# EAGLE library part Z80PIO (library zilog)
Z80 FAMILY DEVICE
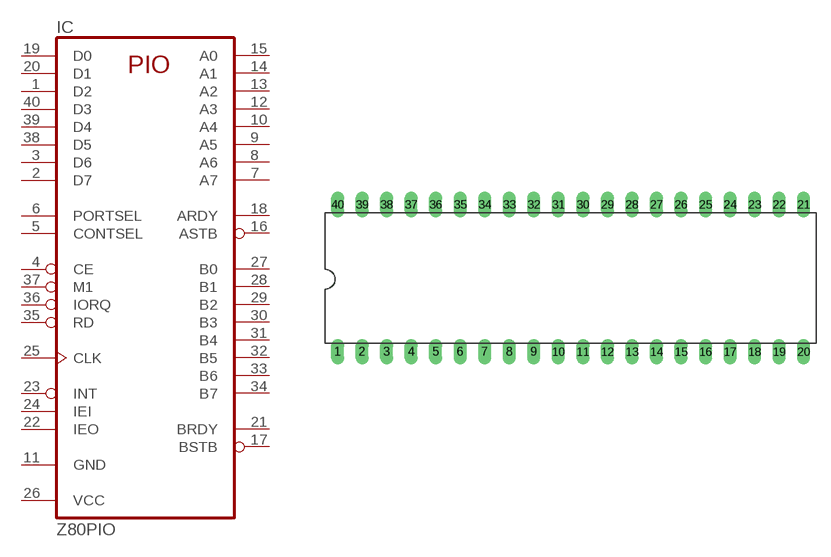
[diagram p1: symbol with the pads of DIL40; footprint DIL40]

Designator prefix IC

## Z80PIO  [DIL40]
1  D2
2  D7
3  D6
4  CE  in
5  CONTSEL  in
6  PORTSEL  in
7  A7
8  A6
9  A5
10  A4
11  GND  pwr
12  A3
13  A2
14  A1
15  A0
16  ASTB  in
17  BSTB  in
18  ARDY  out
19  D0
20  D1
21  BRDY  out
22  IEO  out
23  INT  out
24  IEI  in
25  CLK  in
26  VCC  pwr
27  B0
28  B1
29  B2
30  B3
31  B4
32  B5
33  B6
34  B7
35  RD  in
36  IORQ  in
37  M1  in
38  D5
39  D4
40  D3

## Footprint DIL40 (pad centres in mm)
Dual In Line Package
drill 0.813 long: 1 -24.13,-7.62; 2 -21.59,-7.62; 3 -19.05,-7.62; 4 -16.51,-7.62; 5 -13.97,-7.62; 6 -11.43,-7.62; 7 -8.89,-7.62; 8 -6.35,-7.62; 9 -3.81,-7.62; 10 -1.27,-7.62; 11 1.27,-7.62; 12 3.81,-7.62; 13 6.35,-7.62; 14 8.89,-7.62; 15 11.43,-7.62; 16 13.97,-7.62; 17 16.51,-7.62; 18 19.05,-7.62; 19 21.59,-7.62; 20 24.13,-7.62; 21 24.13,7.62; 22 21.59,7.62; 23 19.05,7.62; 24 16.51,7.62; 25 13.97,7.62; 26 11.43,7.62; 27 8.89,7.62; 28 6.35,7.62; 29 3.81,7.62; 30 1.27,7.62; 31 -1.27,7.62; 32 -3.81,7.62; 33 -6.35,7.62; 34 -8.89,7.62; 35 -11.43,7.62; 36 -13.97,7.62; 37 -16.51,7.62; 38 -19.05,7.62; 39 -21.59,7.62; 40 -24.13,7.62